# Altium footprint library Relay T.PcbLib: 1 footprints
Each footprint in its own frame and in the unit in brackets; x right, y up, seen from the top. Pads: shape width x height; smd on the part's side, far side on the other; paste and mask are expansions set on the pad; w line width, h text height; cw(c..) or ccw(c..) is an arc to the next point about the centre after c.
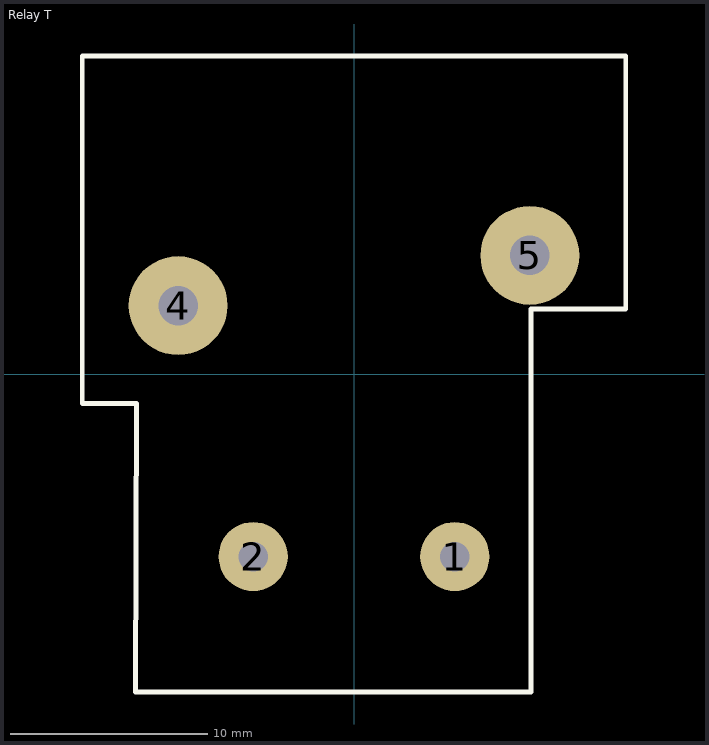
[diagram p0: the footprint, top view; thin cyan lines are the x and y axes]

## Relay T [mm]
height 21
pads (4):
  round 3.5 hole 1.5 mask+0.178: 1(5.1,-9.24) 2(-5.1,-9.24)
  round 5 hole 2 mask+0.178: 4(-8.9,3.46) 5(8.9,6)
Top Overlay:
  lines w0.25: -13.75,-1.5 -11,-1.5 -11.05,-16.1 8.95,-16.1 8.95,3.3 13.75,3.3 13.75,16.1 -13.75,16.1 -13.75,-1.5
3D body "HF165FD[4].stp": height 20.44, standoff -3.26, extent -13.8,-16.16 13.7,16.04